# EAGLE library part LT8330 (library linear-technology)
IC REG BOOST SEPIC ADJ 1A
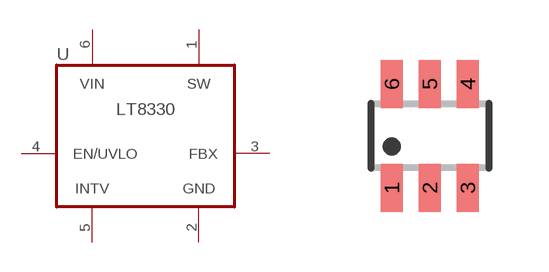
[diagram p67: symbol with the pads of TSOT23-6; footprint TSOT23-6]

Designator prefix U

## LT8330S6  [TSOT23-6]
1  SW  pas
2  GND  pas
3  FBX  in
4  EN/UVLO  in
5  INTV  pas
6  VIN  pas

## Footprint TSOT23-6 (pad centres in mm)
TSOT-23 - S6 0.95 mm pitch
smd 0.55 x 1.2: 1 -0.95,-1.3; 2 0,-1.3; 3 0.95,-1.3; 4 0.95,1.3; 5 0,1.3; 6 -0.95,1.3